# Altium integrated library 104 cap.IntLib: 1 symbol
Pins are listed as number, name and electrical type; pins without a type are passive.

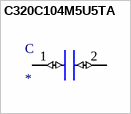
[diagram p0: symbol C320C104M5U5TA]

## C320C104M5U5TA
designator C
0.1ÂµF Â±20% 50V Ceramic Capacitor Z5U Radial; MF: KEMET; MP: C320C104M5U5TA; Package: Radial KEMET; Value: *; SnapEDA_Link: https://www.snapeda.com/parts/C320C104M5U5TA/KEMET/view-part/228184/?ref=snap; Price: None; Availability: Unavailable
footprint C320C
pins: 1 (io), 2 (io)